# Altium schematic symbol library 0603_Chip_Resistor.SchLib: 1 symbol
Pins are listed as number, name and electrical type; pins without a type are passive.

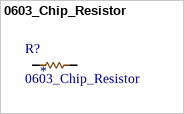
[diagram p0: symbol 0603_Chip_Resistor]

## 0603_Chip_Resistor
designator R?
0603 Chip Resistor - Surface Mount ROHS; LCSC: *
footprint 0603_Chip_Resistor
pins: 1, 2